# Altium footprint library Analog Device.PcbLib: 15 footprints
Each footprint in its own frame and in the unit in brackets; x right, y up, seen from the top. Pads: shape width x height; smd on the part's side, far side on the other; paste and mask are expansions set on the pad; w line width, h text height; cw(c..) or ccw(c..) is an arc to the next point about the centre after c.
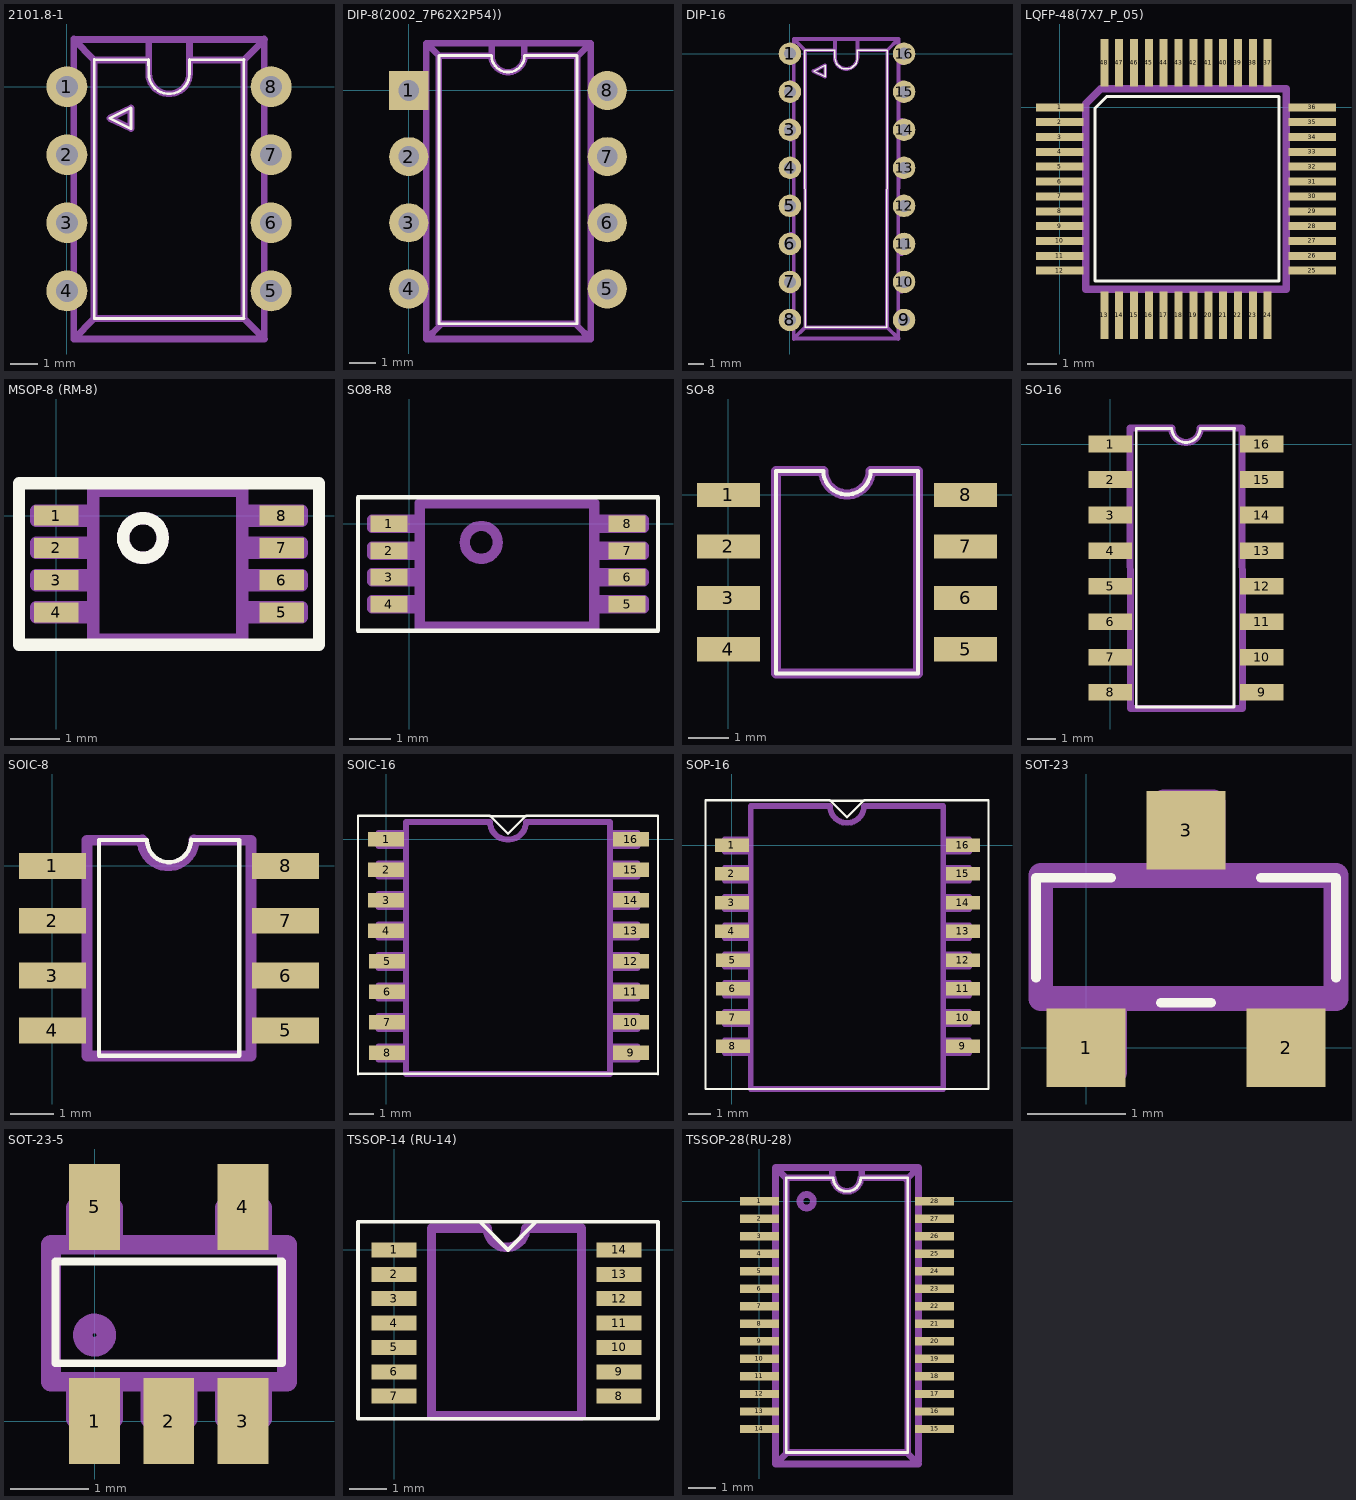
[diagram p0: the footprints below, top view; thin cyan lines are the x and y axes]

## 2101.8-1 [mm]
pads (8):
  round 1.5 hole 0.8: 1(0,0) 2(0,-2.5) 3(0,-5) 4(0,-7.5) 5(7.5,-7.5) 6(7.5,-5) 7(7.5,-2.5) 8(7.5,0)
Top Overlay:
  lines w0.1: 1,-8.5 1,1 ; 1.004,-8.516 6.504,-8.516 ; 1.004,0.984 3.004,0.984 ; 3,1 3.004,0.484 ccw(c3.754,0.484) 4.504,0.484 4.5,1 ; 4.504,0.984 6.504,0.984 ; 6.5,-8.5 6.5,1 ; 1.576,-1.161 2.352,-1.541 2.352,-0.781 1.576,-1.161
Mechanical 1:
  lines w0.25: -0.2,0 0,0 ; 0.004,-7.816 -0.219,-7.816 -0.219,-7.516 -0.219,-7.216 0.004,-7.216 ; 0.004,-5.316 -0.219,-5.316 -0.219,-5.016 -0.219,-4.716 0.004,-4.716 ; 0.004,-2.816 -0.219,-2.816 -0.219,-2.516 -0.219,-2.216 0.004,-2.216 ; 0.004,-0.316 -0.219,-0.316 -0.219,-0.016 -0.219,0.284 0.004,0.284 ; 0.25,-9.25 0.25,1.75 ; 0.254,-8.116 0.004,-8.116 0.004,-6.916 0.254,-6.916 ; 0.254,-5.616 0.004,-5.616 0.004,-4.416 0.254,-4.416 ; 0.254,-3.116 0.004,-3.116 0.004,-1.916 0.254,-1.916 ; 0.254,-0.616 0.004,-0.616 0.004,0.584 0.254,0.584 ; 1,-8.5 1,1 ; 3.004,0.984 1.004,0.984 0.254,1.734 7.254,1.734 6.504,0.984 4.504,0.984 ; 3.004,1.734 3.004,0.484 ccw(c3.754,0.484) 4.504,0.484 4.504,1.734 ; 6.5,-8.5 6.5,1 ; 7.25,-9.25 7.25,1.75 ; 7.254,-8.116 7.504,-8.116 7.504,-6.916 7.254,-6.916 ; 7.254,-5.616 7.504,-5.616 7.504,-4.416 7.254,-4.416 ; 7.254,-3.116 7.504,-3.116 7.504,-1.916 7.254,-1.916 ; 7.254,-0.616 7.504,-0.616 7.504,0.584 7.254,0.584 ; 7.504,-7.816 7.727,-7.816 7.727,-7.516 7.727,-7.216 7.504,-7.216 ; 7.504,-5.316 7.727,-5.316 7.727,-5.016 7.727,-4.716 7.504,-4.716 ; 7.504,-2.816 7.727,-2.816 7.727,-2.516 7.727,-2.216 7.504,-2.216 ; 7.504,-0.316 7.727,-0.316 7.727,-0.016 7.727,0.284 7.504,0.284 ; 0.254,-9.266 7.254,-9.266 6.504,-8.516 1.004,-8.516 0.254,-9.266 ; 1.576,-1.161 2.352,-1.541 2.352,-0.781 1.576,-1.161

## DIP-8(2002_7P62X2P54)) [mm]
pads (8):
  rect 1.5x1.5 hole 0.8: 1(0,0)
  round 1.5 hole 0.8: 2(0,-2.54) 3(0,-5.08) 4(0,-7.62) 5(7.62,-7.62) 6(7.62,-5.08) 7(7.62,-2.54) 8(7.62,0)
Top Overlay:
  lines w0.1: 1.16,-8.96 6.46,-8.96 6.46,1.34 4.445,1.34 cw(c3.81,1.34) 3.175,1.34 1.16,1.34 1.16,-8.96
Mechanical 1:
  lines w0.25: -0.07,-7.81 -0.42,-7.81 -0.42,-7.51 -0.07,-7.51 ; -0.07,-5.27 -0.42,-5.27 -0.42,-4.97 -0.07,-4.97 ; -0.07,-2.73 -0.42,-2.73 -0.42,-2.43 -0.07,-2.43 ; -0.07,-0.19 -0.42,-0.19 -0.42,0.11 -0.07,0.11 ; 0.68,-8.01 -0.07,-8.01 -0.07,-7.31 0.68,-7.31 ; 0.68,-5.47 -0.07,-5.47 -0.07,-4.77 0.68,-4.77 ; 0.68,-2.93 -0.07,-2.93 -0.07,-2.23 0.68,-2.23 ; 0.68,-0.39 -0.07,-0.39 -0.07,0.31 0.68,0.31 ; 1.18,1.31 0.68,1.81 ; 1.23,-8.99 0.68,-9.54 ; 3.18,1.31 3.18,1.81 ; 4.43,1.36 4.43,1.81 ; 6.43,-8.99 6.98,-9.54 ; 6.48,1.31 6.98,1.81 ; 6.98,-7.99 7.69,-8.01 7.69,-7.31 6.98,-7.29 ; 6.98,-5.49 7.69,-5.47 7.69,-4.77 6.98,-4.79 ; 6.98,-2.94 7.69,-2.93 7.69,-2.23 6.98,-2.24 ; 6.98,-0.39 7.69,-0.39 7.69,0.31 6.98,0.31 ; 7.69,-7.81 8.04,-7.81 8.04,-7.51 7.69,-7.51 ; 7.69,-5.27 8.04,-5.27 8.04,-4.97 7.69,-4.97 ; 7.69,-2.73 8.04,-2.73 8.04,-2.43 7.69,-2.43 ; 7.69,-0.19 8.04,-0.19 8.04,0.11 7.69,0.11 ; 0.68,-9.54 6.98,-9.54 ; 0.68,-9.54 0.68,1.41 0.68,1.81 ; 0.68,1.81 6.98,1.81 ; 6.98,-9.54 6.98,1.81 ; 1.16,-8.96 6.46,-8.96 6.46,1.34 4.445,1.34 cw(c3.81,1.34) 3.175,1.34 1.16,1.34 1.16,-8.96

## DIP-16 [mm]
pads (16):
  round 1.5 hole 0.8: 1(0,0) 2(0,-2.54) 3(0,-5.08) 4(0,-7.62) 5(0,-10.16) 6(0,-12.7) 7(0,-15.24) 8(0,-17.78) 9(7.62,-17.78) 10(7.62,-15.24) 11(7.62,-12.7) 12(7.62,-10.16) 13(7.62,-7.62) 14(7.62,-5.08) 15(7.62,-2.54) 16(7.62,0)
Top Overlay:
  lines w0.1: 1.004,-18.274 6.504,-18.274 ; 1.016,-18.288 1.004,0.234 3.004,0.234 ; 3,0.25 3.004,-0.266 ccw(c3.754,-0.266) 4.504,-0.266 4.5,0.25 ; 4.504,0.234 6.504,0.234 6.477,-18.288 ; 1.576,-1.161 2.352,-1.541 2.352,-0.781 1.576,-1.161
Mechanical 1:
  lines w0.25: -0.2,0 0,0 ; 0.004,-18.07 -0.219,-18.07 -0.219,-17.77 -0.219,-17.47 0.004,-17.47 ; 0.004,-15.57 -0.219,-15.57 -0.219,-15.27 -0.219,-14.97 0.004,-14.97 ; 0.004,-12.943 -0.219,-12.943 -0.219,-12.643 -0.219,-12.343 0.004,-12.343 ; 0.004,-10.443 -0.219,-10.443 -0.219,-10.143 -0.219,-9.843 0.004,-9.843 ; 0.004,-7.943 -0.219,-7.943 -0.219,-7.643 -0.219,-7.343 0.004,-7.343 ; 0.004,-5.443 -0.219,-5.443 -0.219,-5.143 -0.219,-4.843 0.004,-4.843 ; 0.004,-2.816 -0.219,-2.816 -0.219,-2.516 -0.219,-2.216 0.004,-2.216 ; 0.004,-0.316 -0.219,-0.316 -0.219,-0.016 -0.219,0.284 0.004,0.284 ; 0.254,-19.05 0.254,0.984 ; 0.254,-18.37 0.004,-18.37 0.004,-17.17 0.254,-17.17 ; 0.254,-15.87 0.004,-15.87 0.004,-14.67 0.254,-14.67 ; 0.254,-13.243 0.004,-13.243 0.004,-12.043 0.254,-12.043 ; 0.254,-10.743 0.004,-10.743 0.004,-9.543 0.254,-9.543 ; 0.254,-8.243 0.004,-8.243 0.004,-7.043 0.254,-7.043 ; 0.254,-5.743 0.004,-5.743 0.004,-4.543 0.254,-4.543 ; 0.254,-3.116 0.004,-3.116 0.004,-1.916 0.254,-1.916 ; 0.254,-0.616 0.004,-0.616 0.004,0.584 0.254,0.584 ; 1.016,-18.288 1.004,0.234 ; 3.004,0.234 1.004,0.234 ; 3.004,0.984 3.004,-0.266 ccw(c3.754,-0.266) 4.504,-0.266 4.504,0.984 ; 4.504,0.234 6.504,0.234 ; 6.477,-18.288 6.504,0.234 ; 7.239,-19.05 7.254,0.984 ; 7.254,-18.37 7.504,-18.37 7.504,-17.17 7.254,-17.17 ; 7.254,-15.87 7.504,-15.87 7.504,-14.67 7.254,-14.67 ; 7.254,-13.37 7.504,-13.37 7.504,-12.17 7.254,-12.17 ; 7.254,-10.743 7.504,-10.743 7.504,-9.543 7.254,-9.543 ; 7.254,-8.243 7.504,-8.243 7.504,-7.043 7.254,-7.043 ; 7.254,-5.616 7.504,-5.616 7.504,-4.416 7.254,-4.416 ; 7.254,-3.116 7.504,-3.116 7.504,-1.916 7.254,-1.916 ; 7.254,-0.616 7.504,-0.616 7.504,0.584 7.254,0.584 ; 7.504,-18.07 7.727,-18.07 7.727,-17.77 7.727,-17.47 7.504,-17.47 ; 7.504,-15.57 7.727,-15.57 7.727,-15.27 7.727,-14.97 7.504,-14.97 ; 7.504,-13.07 7.727,-13.07 7.727,-12.77 7.727,-12.47 7.504,-12.47 ; 7.504,-10.443 7.727,-10.443 7.727,-10.143 7.727,-9.843 7.504,-9.843 ; 7.504,-7.943 7.727,-7.943 7.727,-7.643 7.727,-7.343 7.504,-7.343 ; 7.504,-5.316 7.727,-5.316 7.727,-5.016 7.727,-4.716 7.504,-4.716 ; 7.504,-2.816 7.727,-2.816 7.727,-2.516 7.727,-2.216 7.504,-2.216 ; 7.504,-0.316 7.727,-0.316 7.727,-0.016 7.727,0.284 7.504,0.284 ; 0.254,0.984 7.254,0.984 ; 0.254,0.984 1.004,0.234 ; 6.504,0.234 7.254,0.984 ; 0.254,-19.024 7.254,-19.024 6.504,-18.274 1.004,-18.274 0.254,-19.024 ; 1.576,-1.161 2.352,-1.541 2.352,-0.781 1.576,-1.161

## LQFP-48(7X7_P_05) [mm]
pads (48):
  rect 1.6x0.27 smd: 1(0,0) 2(0,-0.5) 3(0,-1) 4(0,-1.5) 5(0,-2) 6(0,-2.5) 7(0,-3) 8(0,-3.5) 9(0,-4) 10(0,-4.5) 11(0,-5) 12(0,-5.5) 25(8.5,-5.5) 26(8.5,-5) 27(8.5,-4.5) 28(8.5,-4) 29(8.5,-3.5) 30(8.5,-3) 31(8.5,-2.5) 32(8.5,-2) 33(8.5,-1.5) 34(8.5,-1) 35(8.5,-0.5) 36(8.5,0)
  rect 0.27x1.6 smd: 13(1.5,-7) 14(2,-7) 15(2.5,-7) 16(3,-7) 17(3.5,-7) 18(4,-7) 19(4.5,-7) 20(5,-7) 21(5.5,-7) 22(6,-7) 23(6.5,-7) 24(7,-7) 37(7,1.5) 38(6.5,1.5) 39(6,1.5) 40(5.5,1.5) 41(5,1.5) 42(4.5,1.5) 43(4,1.5) 44(3.5,1.5) 45(3,1.5) 46(2.5,1.5) 47(2,1.5) 48(1.5,1.5)
Top Overlay:
  lines w0.1: 1.18,-5.84 7.38,-5.84 7.38,0.36 1.58,0.36 1.18,-0.04 1.18,-5.84
Mechanical 1:
  lines w0.25: 0.875,-6.125 7.625,-6.125 7.625,0.625 1.375,0.625 0.875,0.125 0.875,-6.125

## MSOP-8 (RM-8) [mm]
pads (8):
  rect 0.9x0.4 smd: 1(0,0) 2(0,-0.65) 3(0,-1.3) 4(0,-1.95) 5(4.55,-1.95) 6(4.55,-1.3) 7(4.55,-0.65) 8(4.55,0)
Top Overlay:
  lines w0.25: -0.75,-2.6 5.3,-2.6 5.3,0.65 -0.75,0.65 -0.75,-2.6 ; 1.35,-0.45 cw(c1.75,-0.45) 2.15,-0.45 cw(c1.75,-0.45) 1.35,-0.45
Mechanical 1:
  lines w0.25: 0.75,-2.05 -0.4,-2.05 -0.4,-1.85 0.75,-1.85 ; 0.75,-1.4 -0.4,-1.4 -0.4,-1.2 0.75,-1.2 ; 0.75,-0.75 -0.4,-0.75 -0.4,-0.55 0.75,-0.55 ; 0.75,-0.1 -0.4,-0.1 -0.4,0.1 0.75,0.1 ; 3.8,-2.05 4.95,-2.05 4.95,-1.85 3.8,-1.85 ; 3.8,-1.4 4.95,-1.4 4.95,-1.2 3.8,-1.2 ; 3.8,-0.75 4.95,-0.75 4.95,-0.55 3.8,-0.55 ; 3.8,-0.1 4.95,-0.1 4.95,0.1 3.8,0.1 ; 0.75,-2.5 3.75,-2.5 3.75,0.5 0.75,0.5 0.75,-2.5 ; 1.35,-0.45 cw(c1.75,-0.45) 2.15,-0.45 cw(c1.75,-0.45) 1.35,-0.45

## SO8-R8 [mm]
pads (8):
  rect 0.9x0.4 smd: 1(-0.5,0) 2(-0.5,-0.65) 3(-0.5,-1.3) 4(-0.5,-1.95) 5(5.3,-1.95) 6(5.3,-1.3) 7(5.3,-0.65) 8(5.3,0)
Top Overlay:
  lines w0.1: -1.25,-2.6 6.05,-2.6 6.05,0.65 -1.25,0.65 -1.25,-2.6
Mechanical 1:
  lines w0.25: 0.25,-2.05 -0.9,-2.05 -0.9,-1.85 0.25,-1.85 ; 0.25,-1.4 -0.9,-1.4 -0.9,-1.2 0.25,-1.2 ; 0.25,-0.75 -0.9,-0.75 -0.9,-0.55 0.25,-0.55 ; 0.25,-0.1 -0.9,-0.1 -0.9,0.1 0.25,0.1 ; 4.55,-2.05 5.7,-2.05 5.7,-1.85 4.55,-1.85 ; 4.55,-1.4 5.7,-1.4 5.7,-1.2 4.55,-1.2 ; 4.55,-0.75 5.7,-0.75 5.7,-0.55 4.55,-0.55 ; 4.55,-0.1 5.7,-0.1 5.7,0.1 4.55,0.1 ; 0.25,-2.5 4.5,-2.5 4.5,0.5 0.25,0.5 0.25,-2.5 ; 1.35,-0.45 cw(c1.75,-0.45) 2.15,-0.45 cw(c1.75,-0.45) 1.35,-0.45

## SO-8 [mm]
pads (8):
  rect 1.55x0.6 smd: 1(0,0) 2(0,-1.27) 3(0,-2.54) 4(0,-3.81) 5(5.85,-3.81) 6(5.85,-2.54) 7(5.85,-1.27) 8(5.85,0)
Top Overlay:
  lines w0.1: 1.175,-4.405 4.675,-4.405 4.675,0.595 3.508,0.595 cw(c2.925,0.595) 2.342,0.595 1.175,0.595 1.175,-4.405
Mechanical 1:
  lines w0.25: 1.175,-4.405 4.675,-4.405 4.675,0.595 3.508,0.595 cw(c2.925,0.595) 2.342,0.595 1.175,0.595 1.175,-4.405

## SO-16 [mm]
pads (16):
  rect 1.55x0.6 smd: 1(0,0) 2(0,-1.27) 3(0,-2.54) 4(0,-3.81) 5(0,-5.08) 6(0,-6.35) 7(0,-7.62) 8(0,-8.87) 9(5.4,-8.87) 10(5.4,-7.62) 11(5.4,-6.35) 12(5.4,-5.08) 13(5.4,-3.81) 14(5.4,-2.54) 15(5.4,-1.27) 16(5.4,0)
Top Overlay:
  lines w0.1: 0.92,-9.39 0.92,0.56 ; 0.94,-9.39 4.42,-9.39 4.42,0.56 ; 0.94,0.56 2.14,0.56 ; 2.192,0.565 ccw(c2.7,0.565) 3.208,0.565 ; 3.24,0.56 4.44,0.56
Mechanical 1:
  lines w0.25: 2.192,0.565 0.7,0.565 0.72,-9.44 4.72,-9.44 4.7,0.565 3.208,0.565
  lines w0.254: 2.192,0.565 ccw(c2.7,0.565) 3.208,0.565

## SOIC-8 [mm]
pads (8):
  rect 1.55x0.6 smd: 1(0,0) 2(0,-1.27) 3(0,-2.54) 4(0,-3.81) 5(5.4,-3.81) 6(5.4,-2.54) 7(5.4,-1.27) 8(5.4,0)
Top Overlay:
  lines w0.1: 2.19,0.6 1.08,0.6 1.08,-4.4 4.33,-4.4 4.33,0.6 3.21,0.605 ; 2.192,0.595 ccw(c2.7,0.595) 3.208,0.595
Mechanical 1:
  lines w0.25: 2.08,0.6 ccw(c2.68,0.6) 3.28,0.6 ; 2.085,0.595 0.8,0.595 0.8,-4.405 4.6,-4.405 4.6,0.595 3.275,0.595

## SOIC-16 [mm]
pads (16):
  rect 1.5x0.6 smd: 1(0,0) 2(0,-1.27) 3(0,-2.54) 4(0,-3.81) 5(0.04,-5.08) 6(0.04,-6.35) 7(0.04,-7.62) 8(0.04,-8.89) 9(10.2,-8.89) 10(10.2,-7.62) 11(10.2,-6.35) 12(10.2,-5.08) 13(10.2,-3.81) 14(10.2,-2.54) 15(10.2,-1.27) 16(10.2,0)
Top Overlay:
  lines w0.1: -1.17,-9.79 -1.17,0.96 ; -1.17,-9.77 11.33,-9.77 ; -1.17,0.98 4.33,0.98 5.08,0.23 5.83,0.98 11.33,0.98 ; 4.33,0.96 5.83,0.96 ; 11.33,-9.79 11.33,0.96
Mechanical 1:
  lines w0.25: 0.03,-9.18 0.03,-8.63 ; 0.03,-7.91 0.03,-7.36 ; 0.03,-6.64 0.03,-6.09 ; 0.03,-5.37 0.03,-4.82 ; 0.03,-4.1 0.03,-3.55 ; 0.03,-2.83 0.03,-2.28 ; 0.03,-1.56 0.03,-1.01 ; 0.03,-0.29 0.03,0.26 ; 0.83,-9.79 0.83,0.71 ; 0.83,-9.77 9.33,-9.77 ; 0.83,-9.18 -0.32,-9.18 -0.32,-8.63 0.83,-8.63 ; 0.83,-7.91 -0.32,-7.91 -0.32,-7.36 0.83,-7.36 ; 0.83,-6.64 -0.32,-6.64 -0.32,-6.09 0.83,-6.09 ; 0.83,-5.37 -0.32,-5.37 -0.32,-4.82 0.83,-4.82 ; 0.83,-4.1 -0.32,-4.1 -0.32,-3.55 0.83,-3.55 ; 0.83,-2.83 -0.32,-2.83 -0.32,-2.28 0.83,-2.28 ; 0.83,-1.56 -0.32,-1.56 -0.32,-1.01 0.83,-1.01 ; 0.83,-0.29 -0.32,-0.29 -0.32,0.26 0.83,0.26 ; 0.83,0.73 4.33,0.73 ccw(c5.08,0.73) 5.83,0.73 9.33,0.73 ; 9.33,-9.79 9.33,0.71 ; 9.33,-9.18 10.48,-9.18 10.48,-8.63 9.33,-8.63 ; 9.33,-7.91 10.48,-7.91 10.48,-7.36 9.33,-7.36 ; 9.33,-6.64 10.48,-6.64 10.48,-6.09 9.33,-6.09 ; 9.33,-5.37 10.48,-5.37 10.48,-4.82 9.33,-4.82 ; 9.33,-4.1 10.48,-4.1 10.48,-3.55 9.33,-3.55 ; 9.33,-2.83 10.48,-2.83 10.48,-2.28 9.33,-2.28 ; 9.33,-1.56 10.48,-1.56 10.48,-1.01 9.33,-1.01 ; 9.33,-0.29 10.48,-0.29 10.48,0.26 9.33,0.26 ; 10.13,-9.18 10.13,-8.63 ; 10.13,-7.91 10.13,-7.36 ; 10.13,-6.64 10.13,-6.09 ; 10.13,-5.37 10.13,-4.82 ; 10.13,-4.1 10.13,-3.55 ; 10.13,-2.83 10.13,-2.28 ; 10.13,-1.56 10.13,-1.01 ; 10.13,-0.29 10.13,0.26

## SOP-16 [mm]
pads (16):
  rect 1.5x0.6 smd: 1(0,0) 2(0,-1.27) 3(0,-2.54) 4(0,-3.81) 5(0.04,-5.08) 6(0.04,-6.35) 7(0.04,-7.62) 8(0.04,-8.89) 9(10.2,-8.89) 10(10.2,-7.62) 11(10.2,-6.35) 12(10.2,-5.08) 13(10.2,-3.81) 14(10.2,-2.54) 15(10.2,-1.27) 16(10.2,0)
Top Overlay:
  lines w0.1: 4.33,1.96 5.83,1.96 ; -1.17,-10.77 11.33,-10.77 11.33,1.98 5.83,1.98 5.08,1.23 4.33,1.98 -1.17,1.98 -1.17,-10.77
Mechanical 1:
  lines w0.25: 0.03,-9.18 0.03,-8.63 ; 0.03,-7.91 0.03,-7.36 ; 0.03,-6.64 0.03,-6.09 ; 0.03,-5.37 0.03,-4.82 ; 0.03,-4.1 0.03,-3.55 ; 0.03,-2.83 0.03,-2.28 ; 0.03,-1.56 0.03,-1.01 ; 0.03,-0.29 0.03,0.26 ; 0.83,-9.18 -0.32,-9.18 -0.32,-8.63 0.83,-8.63 ; 0.83,-7.91 -0.32,-7.91 -0.32,-7.36 0.83,-7.36 ; 0.83,-6.64 -0.32,-6.64 -0.32,-6.09 0.83,-6.09 ; 0.83,-5.37 -0.32,-5.37 -0.32,-4.82 0.83,-4.82 ; 0.83,-4.1 -0.32,-4.1 -0.32,-3.55 0.83,-3.55 ; 0.83,-2.83 -0.32,-2.83 -0.32,-2.28 0.83,-2.28 ; 0.83,-1.56 -0.32,-1.56 -0.32,-1.01 0.83,-1.01 ; 0.83,-0.29 -0.32,-0.29 -0.32,0.26 0.83,0.26 ; 9.33,-9.18 10.48,-9.18 10.48,-8.63 9.33,-8.63 ; 9.33,-7.91 10.48,-7.91 10.48,-7.36 9.33,-7.36 ; 9.33,-6.64 10.48,-6.64 10.48,-6.09 9.33,-6.09 ; 9.33,-5.37 10.48,-5.37 10.48,-4.82 9.33,-4.82 ; 9.33,-4.1 10.48,-4.1 10.48,-3.55 9.33,-3.55 ; 9.33,-2.83 10.48,-2.83 10.48,-2.28 9.33,-2.28 ; 9.33,-1.56 10.48,-1.56 10.48,-1.01 9.33,-1.01 ; 9.33,-0.29 10.48,-0.29 10.48,0.26 9.33,0.26 ; 10.13,-9.18 10.13,-8.63 ; 10.13,-7.91 10.13,-7.36 ; 10.13,-6.64 10.13,-6.09 ; 10.13,-5.37 10.13,-4.82 ; 10.13,-4.1 10.13,-3.55 ; 10.13,-2.83 10.13,-2.28 ; 10.13,-1.56 10.13,-1.01 ; 10.13,-0.29 10.13,0.26 ; 0.83,-10.77 9.33,-10.77 9.33,1.73 5.83,1.73 cw(c5.08,1.73) 4.33,1.73 0.83,1.73 0.83,-10.77

## SOT-23 [mm]
pads (3):
  rect 0.8x0.8 smd: 1(0,0) 2(2.032,0) 3(1.016,2.21)
Top Overlay:
  lines w0.1: -0.508,0.711 -0.508,1.727 0.254,1.727 ; 0.762,0.457 1.27,0.457 ; 1.778,1.727 2.54,1.727 2.54,0.711
Mechanical 1:
  lines w0.25: -0.21,0.5 -0.21,-0.25 0.29,-0.25 0.29,0.5 ; 0.79,1.75 0.79,2.5 1.29,2.5 1.29,1.75 ; 1.79,0.5 1.79,-0.25 2.29,-0.25 2.29,0.5 ; -0.46,0.5 2.54,0.5 2.54,1.75 -0.46,1.75 -0.46,0.5

## SOT-23-5 [mm]
pads (5):
  rect 0.65x1.1 smd: 1(0,0) 2(0.95,0) 3(1.9,0) 4(1.9,2.74) 5(0,2.74)
Top Overlay:
  lines w0.1: -0.5,0.74 2.4,0.74 2.4,2.04 -0.5,2.04 -0.5,0.74
Mechanical 1:
  circle w0.25: c0,1.1 r0.15
  lines w0.25: -0.239,0.505 -0.239,0.028 0.238,0.028 0.238,0.505 ; -0.239,2.254 -0.239,2.731 0.238,2.731 0.238,2.254 ; 0.715,0.505 0.715,0.028 1.192,0.028 1.192,0.505 ; 1.669,0.505 1.669,0.028 2.146,0.028 2.146,0.346 2.146,0.505 ; 1.669,2.254 1.669,2.731 2.146,2.731 2.146,2.254 ; -0.557,0.505 2.464,0.505 2.464,2.254 -0.557,2.254 -0.557,0.505

## TSSOP-14 (RU-14) [mm]
pads (14):
  rect 1.2x0.4 smd: 1(0,0) 2(0,-0.65) 3(0,-1.3) 4(0,-1.95) 5(0,-2.6) 6(0,-3.25) 7(0,-3.9) 8(6.003,-3.9) 9(6.003,-3.25) 10(6.003,-2.6) 11(6.003,-1.95) 12(6.003,-1.3) 13(6.003,-0.65) 14(6.003,0)
Top Overlay:
  lines w0.1: 2.29,0.75 3.04,0 3.79,0.75 ; -0.96,-4.5 7.04,-4.5 7.04,0.75 -0.96,0.75 -0.96,-4.5
Mechanical 1:
  lines w0.25: 1.001,-4.425 5.001,-4.425 5.001,0.575 3.51,0.575 cw(c3.002,0.575) 2.494,0.575 1.001,0.575 1.001,-4.425

## TSSOP-28(RU-28) [mm]
pads (28):
  rect 1.45x0.31 smd: 1(0,0) 2(0,-0.65) 3(0,-1.3) 4(0,-1.95) 5(0,-2.6) 6(0,-3.25) 7(0,-3.9) 8(0,-4.55) 9(0,-5.2) 10(0,-5.85) 11(0,-6.5) 12(0,-7.15) 13(0,-7.8) 14(0,-8.45) 15(6.5,-8.45) 16(6.5,-7.8) 17(6.5,-7.15) 18(6.5,-6.5) 19(6.5,-5.85) 20(6.5,-5.2) 21(6.5,-4.55) 22(6.5,-3.9) 23(6.5,-3.25) 24(6.5,-2.6) 25(6.5,-1.95) 26(6.5,-1.3) 27(6.5,-0.65) 28(6.5,0)
Top Overlay:
  lines w0.1: 1,-9.325 5.5,-9.325 5.5,0.875 3.758,0.875 cw(c3.25,0.875) 2.742,0.875 1,0.875 1,-9.325
Mechanical 1:
  lines w0.25: -0.15,-8.45 0.6,-8.45 ; -0.15,-7.8 0.6,-7.8 ; -0.15,-7.15 0.6,-7.15 ; -0.15,-6.5 0.6,-6.5 ; -0.15,-5.85 0.6,-5.85 ; -0.15,-5.2 0.6,-5.2 ; -0.15,-4.55 0.6,-4.55 ; -0.15,-3.9 0.6,-3.9 ; -0.15,-3.25 0.6,-3.25 ; -0.15,-2.6 0.6,-2.6 ; -0.15,-1.95 0.6,-1.95 ; -0.15,-1.3 0.6,-1.3 ; -0.15,-0.65 0.6,-0.65 ; -0.15,0 0.6,0 ; 1,-9.35 0.6,-9.75 ; 1,0.85 0.6,1.25 ; 2.7,0.85 2.7,1.25 ; 3.8,0.85 3.8,1.25 ; 5.45,-9.3 5.9,-9.75 0.6,-9.75 ; 5.45,0.8 5.9,1.25 ; 5.9,-9.65 5.9,1.25 ; 5.9,-8.45 6.65,-8.45 ; 5.9,-7.8 6.65,-7.8 ; 5.9,-7.15 6.65,-7.15 ; 5.9,-6.5 6.65,-6.5 ; 5.9,-5.85 6.65,-5.85 ; 5.9,-5.2 6.65,-5.2 ; 5.9,-4.55 6.65,-4.55 ; 5.9,-3.9 6.65,-3.9 ; 5.9,-3.25 6.65,-3.25 ; 5.9,-2.6 6.65,-2.6 ; 5.9,-1.95 6.65,-1.95 ; 5.9,-1.3 6.65,-1.3 ; 5.9,-0.65 6.65,-0.65 ; 5.9,0 6.65,0 ; 0.6,-9.75 0.6,1.25 ; 0.6,1.25 5.9,1.25 ; 1,-9.325 5.5,-9.325 5.5,0.875 3.758,0.875 cw(c3.25,0.875) 2.742,0.875 1,0.875 1,-9.325 ; 1.5,0 cw(c1.75,0) 2,0 cw(c1.75,0) 1.5,0